# Altium footprint library SOP65P490X110-8N.PcbLib: 1 footprints
Each footprint in its own frame and in the unit in brackets; x right, y up, seen from the top. Pads: shape width x height; smd on the part's side, far side on the other; paste and mask are expansions set on the pad; w line width, h text height; cw(c..) or ccw(c..) is an arc to the next point about the centre after c.
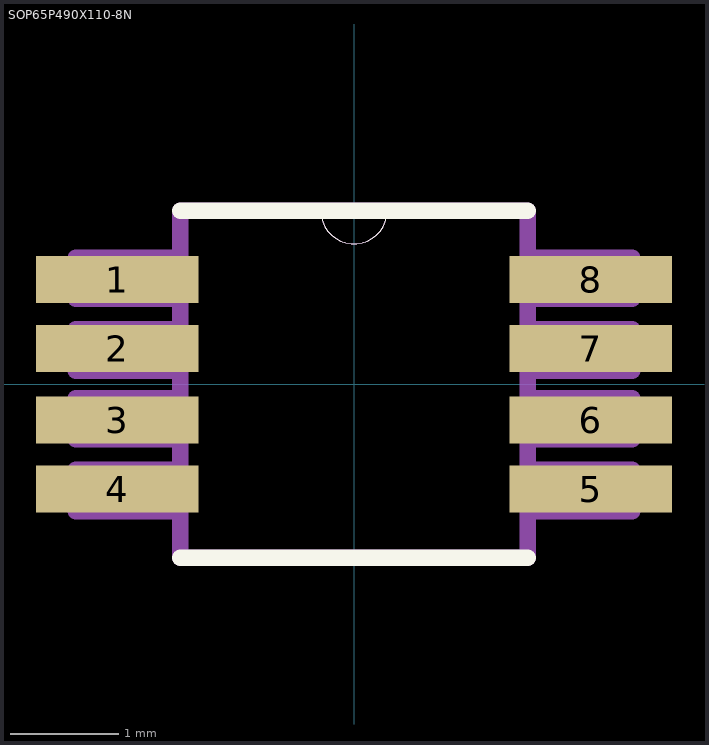
[diagram p0: the footprint, top view; thin cyan lines are the x and y axes]

## SOP65P490X110-8N [mil]
pads (8):
  rect 59x17 smd: 1(-86,38) 2(-86,13) 3(-86,-13) 4(-86,-38) 5(86,-38) 6(86,-13) 7(86,13) 8(86,38)
Top Overlay:
  lines w0: -12,63 ccw(c0,63) 12,63
  lines w6: -63,-63 63,-63 ; -63,63 -12,63 12,63 63,63
Mechanical 13:
  lines w0: -12,63 ccw(c0,63) 12,63
  lines w6: -101,-46 -101,-31 -63,-31 -63,-46 -101,-46 ; -101,-20 -101,-5 -63,-5 -63,-20 -101,-20 ; -101,5 -101,20 -63,20 -63,5 -101,5 ; -101,31 -101,46 -63,46 -63,31 -101,31 ; -63,-63 63,-63 63,63 12,63 -12,63 -63,63 -63,-63 ; 63,-46 63,-31 101,-31 101,-46 63,-46 ; 63,-20 63,-5 101,-5 101,-20 63,-20 ; 63,5 63,20 101,20 101,5 63,5 ; 63,31 63,46 101,46 101,31 63,31
3D body "step_temp.STEP": height 43.31, standoff 0, extent -96.46,-59.06 96.46,59.06